# Altium schematic symbol library SamacSys.SchLib: 17 symbols
Pins are listed as number, name and electrical type; pins without a type are passive.

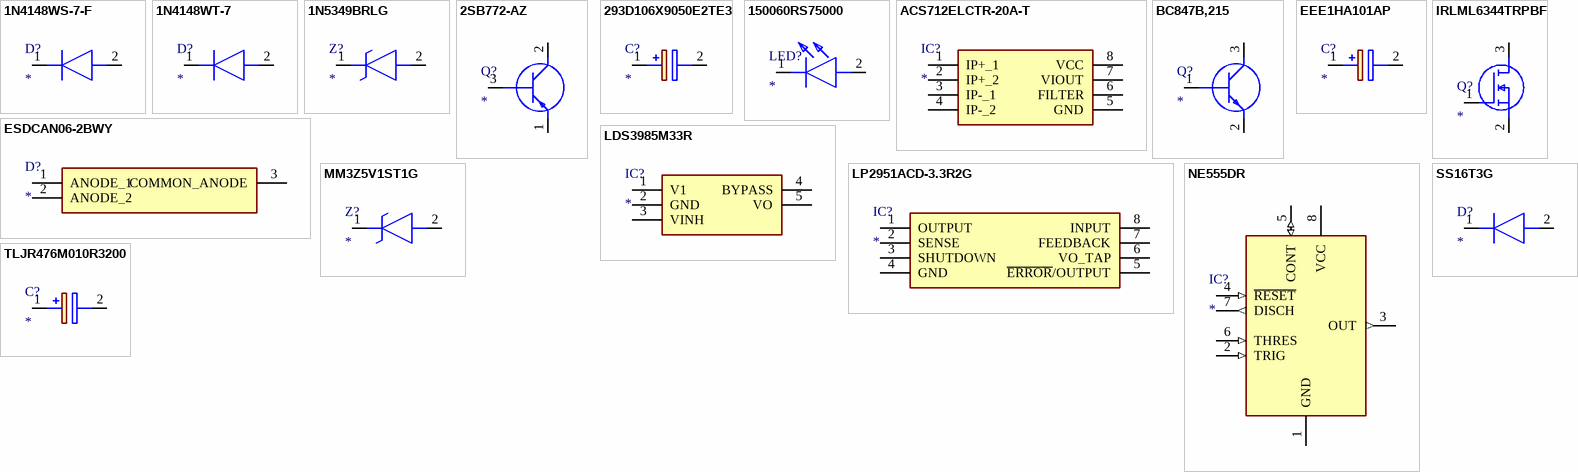
[diagram p0: symbols 1N4148WS-7-F to TLJR476M010R3200]

## 1N4148WS-7-F
designator D?
Diode; Manufacturer_Name: Diodes Inc.; Manufacturer_Part_Number: 1N4148WS-7-F; Datasheet Link: https://componentsearchengine.com/Datasheets/2/1N4148WS-7-F.pdf; Height: 1.2mm; Mouser Part Number: 621-1N4148WS-F; Mouser Price/Stock: https://www.mouser.co.uk/ProductDetail/Diodes-Incorporated/1N4148WS-7-F?qs=4drIV0IxA0r8aNy7%2Fu4kVw%3D%3D; Arrow Part Number: 1N4148WS-7-F; Arrow Price/Stock: https://www.arrow.com/en/products/1n4148ws-7-f/diodes-incorporated?region=nac
footprint SOD2513X120N
pins: 1 K, 2 A

## 1N4148WT-7
designator D?
Diode; Manufacturer_Name: Diodes Inc.; Manufacturer_Part_Number: 1N4148WT-7; Datasheet Link: https://datasheet.datasheetarchive.com/originals/distributors/Datasheets-305/73268.pdf; Height: 0mm; Mouser Part Number: 621-1N4148WT; Mouser Price/Stock: https://www.mouser.co.uk/ProductDetail/Diodes-Incorporated/1N4148WT-7?qs=FITO%2F%2FQgYDlMYETivVNccQ%3D%3D; Arrow Part Number: 1N4148WT-7; Arrow Price/Stock: https://www.arrow.com/en/products/1n4148wt-7/diodes-incorporated?region=nac
footprint 1N4148WT7
pins: 1 K, 2 A

## 1N5349BRLG
designator Z?
Zener Diode; Manufacturer_Name: onsemi; Manufacturer_Part_Number: 1N5349BRLG; Datasheet Link: https://datasheet.datasheetarchive.com/originals/distributors/SFDatasheet-3/sf-00075052.pdf; Mouser Part Number: 863-1N5349BRLG; Mouser Price/Stock: https://www.mouser.co.uk/ProductDetail/onsemi/1N5349BRLG?qs=y2kkmE52mdPPPvJa3zV6XA%3D%3D; Arrow Part Number: 1N5349BRLG; Arrow Price/Stock: https://www.arrow.com/en/products/1n5349brlg/on-semiconductor?region=nac
footprint DIOAD2260W109L864D349
pins: 1 K, 2 A

## 2SB772-AZ
designator Q?
Transistor BJT PNP; Manufacturer_Name: Renesas Electronics; Manufacturer_Part_Number: 2SB772-AZ; Datasheet Link: https://docs.rs-online.com/7cfa/0900766b811ae1f4.pdf; Height: 2.8mm; Mouser Part Number: N/A; Mouser Price/Stock: https://www.mouser.co.uk/ProductDetail/Renesas-Electronics/2SB772-AZ?qs=pUKx8fyJudC3Nl1y55BjMA%3D%3D
footprint TO230P280X850X1470-3P
pins: 1 E, 2 C, 3 B

## 293D106X9050E2TE3
designator C?
Capacitor Polarised; Manufacturer_Name: Vishay; Manufacturer_Part_Number: 293D106X9050E2TE3; Datasheet Link: http://www.vishay.com/doc?40002; Height: 4.3mm; Mouser Part Number: 74-293D106X9050E2TE3; Mouser Price/Stock: https://www.mouser.com/Search/Refine.aspx?Keyword=74-293D106X9050E2TE3; Arrow Part Number: 293D106X9050E2TE3; Arrow Price/Stock: https://www.arrow.com/en/products/293d106x9050e2te3/vishay
footprint CAPPM7343X430N
pins: 1 +, 2 -

## 150060RS75000
designator LED?
LED; Manufacturer_Name: Wurth Elektronik; Manufacturer_Part_Number: 150060RS75000; Datasheet Link: http://katalog.we-online.de/led/datasheet/150060RS75000.pdf; Height: 0.8mm; Mouser Part Number: 710-150060RS75000; Mouser Price/Stock: https://www.mouser.co.uk/ProductDetail/Wurth-Elektronik/150060RS75000?qs=LlUlMxKIyB3QnmZ3fw%2FVCA%3D%3D
footprint LEDC1608X80N
pins: 1 K, 2 A

## ACS712ELCTR-20A-T
designator IC?
Integrated Circuit; Manufacturer_Name: Allegro Microsystems; Manufacturer_Part_Number: ACS712ELCTR-20A-T; Datasheet Link: https://datasheet.datasheetarchive.com/originals/distributors/SFDatasheet-0/sf-000553.pdf; Height: 1.75mm; Mouser Part Number: 250-712ELCTR20AT; Mouser Price/Stock: https://www.mouser.co.uk/ProductDetail/Allegro-MicroSystems/ACS712ELCTR-20A-T?qs=pUKx8fyJudBUdhIPMFjOBQ%3D%3D; Arrow Part Number: ACS712ELCTR-20A-T; Arrow Price/Stock: https://www.arrow.com/en/products/acs712elctr-20a-t/allegro-microsystems
footprint SOIC127P600X175-8N
pins: 1 IP+_1, 2 IP+_2, 3 IP-_1, 4 IP-_2, 5 GND, 6 FILTER, 7 VIOUT, 8 VCC

## BC847B,215
designator Q?
Transistor BJT NPN; Manufacturer_Name: Nexperia; Manufacturer_Part_Number: BC847B,215; Datasheet Link: https://assets.nexperia.com/documents/data-sheet/BC847_SER.pdf; Height: 1.1mm; Mouser Part Number: 771-BC847B-T/R; Mouser Price/Stock: https://www.mouser.co.uk/ProductDetail/Nexperia/BC847B215?qs=me8TqzrmIYXXIdUoxWnHgw%3D%3D; Arrow Part Number: BC847B,215; Arrow Price/Stock: https://www.arrow.com/en/products/bc847b215/nexperia?region=nac
footprint BC847B215
pins: 1 B (io), 2 E (io), 3 C (io)

## EEE1HA101AP
designator C?
Capacitor Polarised; Manufacturer_Name: Panasonic; Manufacturer_Part_Number: EEE1HA101AP; Datasheet Link: http://industrial.panasonic.com/cdbs/www-data/pdf/RDE0000/ABA0000C1142.pdf
footprint EEEFK1V331P
pins: 1 +, 2 -

## ESDCAN06-2BWY
designator D?
TVS Diode (Bi-directional); Manufacturer_Name: STMicroelectronics; Manufacturer_Part_Number: ESDCAN06-2BWY; Datasheet Link: https://www.st.com/resource/en/datasheet/esdcan06-2bwy.pdf; Height: 1.1mm; Mouser Part Number: 511-ESDCAN06-2BWY; Mouser Price/Stock: https://www.mouser.co.uk/ProductDetail/STMicroelectronics/ESDCAN06-2BWY?qs=u4fy%2FsgLU9P2WkvcJBEfoQ%3D%3D; Arrow Part Number: ESDCAN06-2BWY; Arrow Price/Stock: https://www.arrow.com/en/products/esdcan06-2bwy/stmicroelectronics?region=nac
footprint SOT65P210X110-3N
pins: 1 ANODE_1, 2 ANODE_2, 3 COMMON_ANODE

## IRLML6344TRPBF
designator Q?
MOSFET (N-Channel); Manufacturer_Name: Infineon; Manufacturer_Part_Number: IRLML6344TRPBF; Datasheet Link: https://www.infineon.com/dgdl/irlml6344pbf.pdf?fileId=5546d462533600a4015356689c44262c; Height: 1.12mm; Mouser Part Number: 942-IRLML6344TRPBF; Mouser Price/Stock: https://www.mouser.co.uk/ProductDetail/Infineon-IR/IRLML6344TRPBF?qs=9%252BKlkBgLFf2w4qS48UOXVw%3D%3D; Arrow Part Number: IRLML6344TRPBF; Arrow Price/Stock: https://www.arrow.com/en/products/irlml6344trpbf/infineon-technologies-ag?region=nac
footprint SOT95P237X112-3N
pins: 1 G, 2 S, 3 D

## LDS3985M33R
designator IC?
Integrated Circuit; Manufacturer_Name: STMicroelectronics; Manufacturer_Part_Number: LDS3985M33R; Datasheet Link: https://componentsearchengine.com/Datasheets/1/LDS3985M33R.pdf; Height: 1.45mm; Mouser Part Number: 511-LDS3985M33R; Mouser Price/Stock: https://www.mouser.co.uk/ProductDetail/STMicroelectronics/LDS3985M33R?qs=DcAdhm6iCnom47SfkNYeVw%3D%3D; Arrow Part Number: LDS3985M33R; Arrow Price/Stock: https://www.arrow.com/en/products/lds3985m33r/stmicroelectronics?region=nac
footprint SOT95P280X145-5N
pins: 1 V1, 2 GND, 3 VINH, 4 BYPASS, 5 VO

## LP2951ACD-3.3R2G
designator IC?
Integrated Circuit; Manufacturer_Name: onsemi; Manufacturer_Part_Number: LP2951ACD-3.3R2G; Datasheet Link: http://www.onsemi.com/pub/Collateral/LP2950-D.PDF; Height: 1.75mm; Mouser Part Number: 863-LP2951ACD-3.3R2G; Mouser Price/Stock: https://www.mouser.co.uk/ProductDetail/onsemi/LP2951ACD-33R2G?qs=3JMERSakeboHv9zbyrJxQA%3D%3D; Arrow Part Number: LP2951ACD-3.3R2G; Arrow Price/Stock: https://www.arrow.com/en/products/lp2951acd-3.3r2g/on-semiconductor
footprint SOIC127P600X175-8N
pins: 1 OUTPUT, 2 SENSE, 3 SHUTDOWN, 4 GND, 5 ~{ERROR}/OUTPUT, 6 VO_TAP, 7 FEEDBACK, 8 INPUT

## MM3Z5V1ST1G
designator Z?
Zener Diode; Manufacturer_Name: onsemi; Manufacturer_Part_Number: MM3Z5V1ST1G; Datasheet Link: http://www.onsemi.com/pub/Collateral/MM3Z2V4ST1-D.PDF; Height: 1.1mm; Mouser Part Number: 863-MM3Z5V1ST1G; Mouser Price/Stock: https://www.mouser.co.uk/ProductDetail/onsemi/MM3Z5V1ST1G?qs=HVbQlW5zcXXFXX%2FQxsNWFg%3D%3D; Arrow Part Number: MM3Z5V1ST1G; Arrow Price/Stock: https://www.arrow.com/en/products/mm3z5v1st1g/on-semiconductor?region=nac
footprint SOD2512X110N
pins: 1 K, 2 A

## NE555DR
designator IC?
Integrated Circuit; Manufacturer_Name: Texas Instruments; Manufacturer_Part_Number: NE555DR; Datasheet Link: http://www.ti.com/lit/ds/symlink/ne555.pdf; Height: 1.75mm; Mouser Part Number: 595-NE555DR; Mouser Price/Stock: https://www.mouser.com/Search/Refine.aspx?Keyword=595-NE555DR; RS Part Number: 1218414; RS Price/Stock: http://uk.rs-online.com/web/p/products/1218414
footprint SOIC127P600X175-8N
pins: 1 GND (power), 2 TRIG (in), 3 OUT (out), 4 ~{RESET} (in), 5 CONT (io), 6 THRES (in), 7 DISCH (out), 8 VCC (power)

## SS16T3G
designator D?
Diode; Manufacturer_Name: onsemi; Manufacturer_Part_Number: SS16T3G; Datasheet Link: http://www.onsemi.com/pub/Collateral/SS16-D.PDF; Height: 2.2mm; Mouser Part Number: 863-SS16T3G; Mouser Price/Stock: https://www.mouser.co.uk/ProductDetail/onsemi/SS16T3G?qs=xZq1yRCsb1c8788h1nFazA%3D%3D; Arrow Part Number: SS16T3G; Arrow Price/Stock: https://www.arrow.com/en/products/ss16t3g/on-semiconductor?region=nac
footprint DIOM5226X220N
footprint DIOM5226X220N
pins: 1 K, 2 A

## TLJR476M010R3200
designator C?
Capacitor Polarised; Manufacturer_Name: AVX; Manufacturer_Part_Number: TLJR476M010R3200; Datasheet Link: https://componentsearchengine.com/Datasheets/1/TLJR476M010R3200.pdf; Height: 1.4mm; Mouser Part Number: 581-TLJR476M10R3200; Mouser Price/Stock: https://www.mouser.co.uk/ProductDetail/AVX/TLJR476M010R3200?qs=WRdLm8viVpRFTfIUy8OazQ%3D%3D; Arrow Part Number: TLJR476M010R3200; Arrow Price/Stock: https://www.arrow.com/en/products/tljr476m010r3200/avx
footprint CAPPM2014X140N
pins: 1 +, 2 -